# EAGLE library part WIZ850IO (library wiznet)
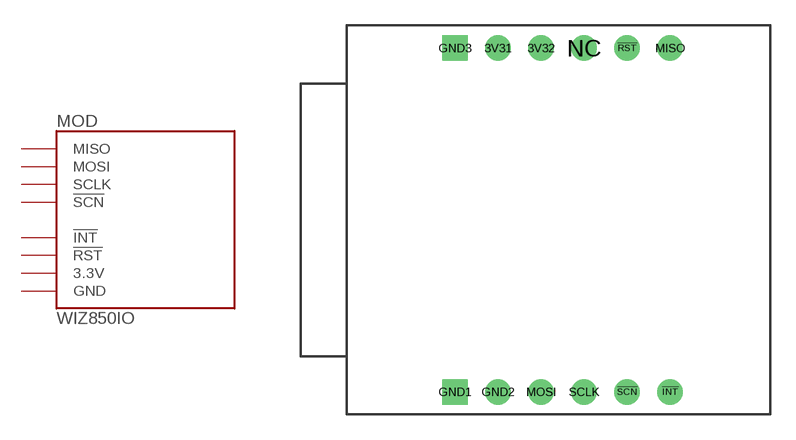
[diagram p0: symbol with the pads of WIZ850IO; footprint WIZ850IO]

Designator prefix MOD

## WIZ850IO  [WIZ850IO]
3V31  3.3V
3V32  3.3V
!INT!  !INT!
!RST!  !RST!
!SCN!  !SCN!
GND1  GND
GND2  GND
GND3  GND
MISO  MISO
MOSI  MOSI
SCLK  SCLK

## Footprint WIZ850IO (pad centres in mm)
drill 1: 3V31 2.54,10.16; 3V32 5.08,10.16; !INT! 12.7,-10.16; !RST! 10.16,10.16; !SCN! 10.16,-10.16; GND2 2.54,-10.16; MISO 12.7,10.16; MOSI 5.08,-10.16; NC 7.62,10.16; SCLK 7.62,-10.16
drill 1 square: GND1 0,-10.16; GND3 0,10.16